# EAGLE library part 80286 (library micro-intel)
MICROCOMPUTER/PERIPHERAL DEVICE
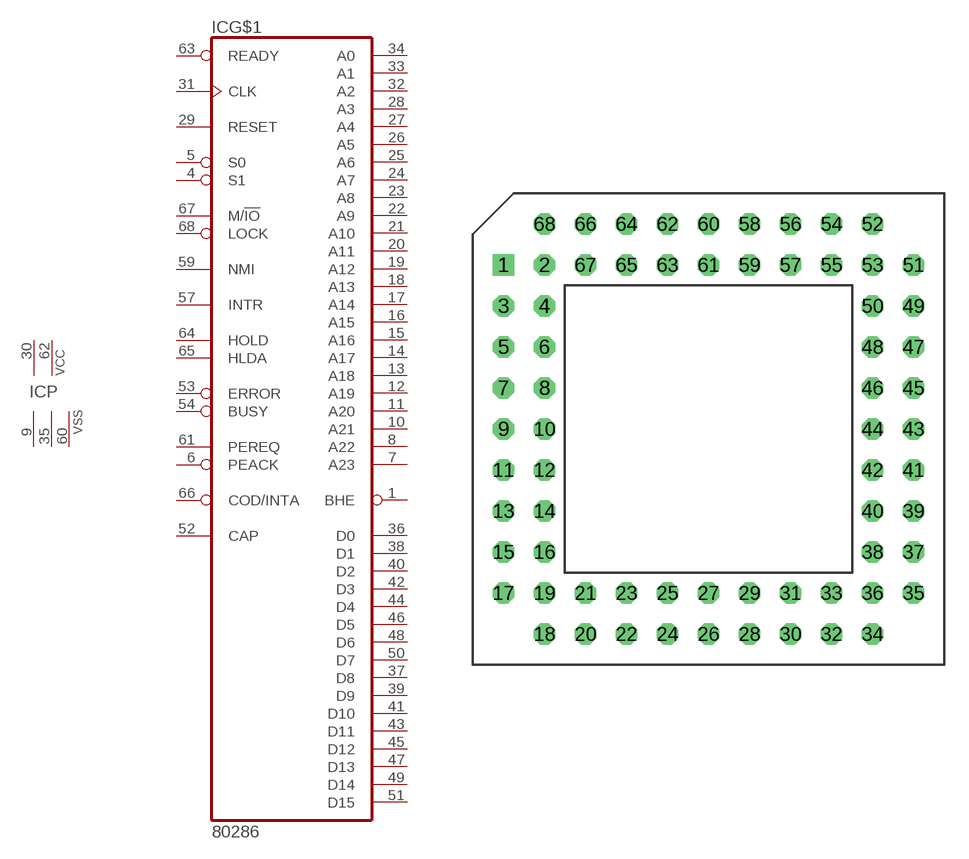
[diagram p1: symbol with the pads of PGA68-N; footprint PGA68-N]

Designator prefix IC; gates G$1=80286 P=2VCC3VSS

## 80286 (OC_FARNELL: unknown; OC_NEWARK: unknown)  [PGA68-N]
1  G$1:BHE  out
4  G$1:S1  out
5  G$1:S0  out
6  G$1:PEACK  out
7  G$1:A23  out
8  G$1:A22  out
9  P:VSS  pwr
10  G$1:A21  out
11  G$1:A20  out
12  G$1:A19  out
13  G$1:A18  out
14  G$1:A17  out
15  G$1:A16  out
16  G$1:A15  out
17  G$1:A14  out
18  G$1:A13  out
19  G$1:A12  out
20  G$1:A11  out
21  G$1:A10  out
22  G$1:A9  out
23  G$1:A8  out
24  G$1:A7  out
25  G$1:A6  out
26  G$1:A5  out
27  G$1:A4  out
28  G$1:A3  out
29  G$1:RESET  in
30  P:VCC  pwr
31  G$1:CLK  in
32  G$1:A2  out
33  G$1:A1  out
34  G$1:A0  out
35  P:VSS  pwr
36  G$1:D0
37  G$1:D8
38  G$1:D1
39  G$1:D9
40  G$1:D2
41  G$1:D10
42  G$1:D3
43  G$1:D11
44  G$1:D4
45  G$1:D12
46  G$1:D5
47  G$1:D13
48  G$1:D6
49  G$1:D14
50  G$1:D7
51  G$1:D15
52  G$1:CAP  in
53  G$1:ERROR  in
54  G$1:BUSY  in
57  G$1:INTR  in
59  G$1:NMI  in
60  P:VSS  pwr
61  G$1:PEREQ  in
62  P:VCC  pwr
63  G$1:READY  in
64  G$1:HOLD  in
65  G$1:HLDA  out
66  G$1:COD/INTA  out
67  G$1:M/!IO  out
68  G$1:LOCK  out

## Footprint PGA68-N (pad centres in mm)
Pin Grid Array
drill 0.813 square: 1 -12.7,10.16
drill 0.813 octagon: 2 -10.16,10.16; 3 -12.7,7.62; 4 -10.16,7.62; 5 -12.7,5.08; 6 -10.16,5.08; 7 -12.7,2.54; 8 -10.16,2.54; 9 -12.7,0; 10 -10.16,0; 11 -12.7,-2.54; 12 -10.16,-2.54; 13 -12.7,-5.08; 14 -10.16,-5.08; 15 -12.7,-7.62; 16 -10.16,-7.62; 17 -12.7,-10.16; 18 -10.16,-12.7; 19 -10.16,-10.16; 20 -7.62,-12.7; 21 -7.62,-10.16; 22 -5.08,-12.7; 23 -5.08,-10.16; 24 -2.54,-12.7; 25 -2.54,-10.16; 26 0,-12.7; 27 0,-10.16; 28 2.54,-12.7; 29 2.54,-10.16; 30 5.08,-12.7; 31 5.08,-10.16; 32 7.62,-12.7; 33 7.62,-10.16; 34 10.16,-12.7; 35 12.7,-10.16; 36 10.16,-10.16; 37 12.7,-7.62; 38 10.16,-7.62; 39 12.7,-5.08; 40 10.16,-5.08; 41 12.7,-2.54; 42 10.16,-2.54; 43 12.7,0; 44 10.16,0; 45 12.7,2.54; 46 10.16,2.54; 47 12.7,5.08; 48 10.16,5.08; 49 12.7,7.62; 50 10.16,7.62; 51 12.7,10.16; 52 10.16,12.7; 53 10.16,10.16; 54 7.62,12.7; 55 7.62,10.16; 56 5.08,12.7; 57 5.08,10.16; 58 2.54,12.7; 59 2.54,10.16; 60 0,12.7; 61 0,10.16; 62 -2.54,12.7; 63 -2.54,10.16; 64 -5.08,12.7; 65 -5.08,10.16; 66 -7.62,12.7; 67 -7.62,10.16; 68 -10.16,12.7